# Altium integrated library 3544-2.IntLib: 1 symbol
Pins are listed as number, name and electrical type; pins without a type are passive.

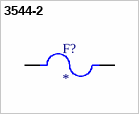
[diagram p0: symbol 3544-2]

## 3544-2
designator F?
Fuse Clip, 500 VAC, 30 A, PCB, For 0.110 in. x 0.032 in. mini blade fuses | Keystone Electronics 3544-2; SnapEDA_Link: https://www.snapeda.com/parts/3544-2/Keystone/view-part/?ref=snap; Package: None; Value: *; MF: Keystone Electronics; MP: 3544-2; Check_prices: https://www.snapeda.com/parts/3544-2/Keystone/view-part/?ref=eda
footprint FUSE_3544-2
pins: 1_1 1, 1_2 1, 2_1 2, 2_2 2